# Altium integrated library POM-3042P-R.IntLib: 1 symbol
Pins are listed as number, name and electrical type; pins without a type are passive.

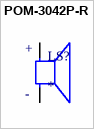
[diagram p0: symbol POM-3042P-R]

## POM-3042P-R
designator LS?
MICROFONO CONDENSADOR ELECTRET 6MM DIA; MF: PUI; MP: POM-3042P-R; Value: *; Check_prices: https://www.snapeda.com/parts/POM-3042P-R/PUI+Audio%252C+Inc./view-part/?ref=eda; Purchase-URL: https://pricing.snapeda.com/search/part/POM-3042P-R/?ref=eda; Price: None; SnapEDA_Link: https://www.snapeda.com/parts/POM-3042P-R/PUI+Audio%252C+Inc./view-part/?ref=snap; Availability: In Stock; Package: None
footprint MIC_POM-3042P-R
pins: N NEG, P POS
text: +; -